# EAGLE library part GADGETEER-SOCKET (library SoftDust)
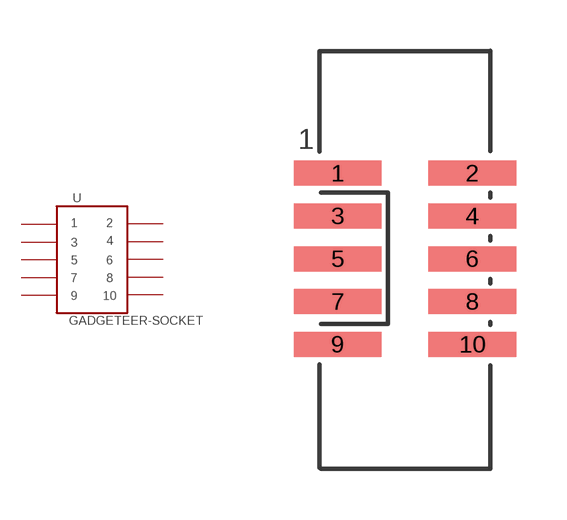
[diagram p0: symbol with the pads of 2X5_1.27MM; footprint 2X5_1.27MM]

Designator prefix -

## GADGETEER-SOCKET  [2X5_1.27MM]
1  P$1
2  P$2
3  P$3
4  P$4
5  P$5
6  P$6
7  P$7
8  P$8
9  P$9
10  P$10

## Footprint 2X5_1.27MM (pad centres in mm)
2x5 pins, 1.27mm pitch "Gadgeteer Socket"
smd 2.6 x 0.74: 1 -2,2.58; 2 2,2.58; 3 -2,1.31; 4 2,1.31; 5 -2,0.04; 6 2,0.04; 7 -2,-1.23; 8 2,-1.23; 9 -2,-2.5; 10 2,-2.5